# Altium schematic symbol library KIA2431AS.SchLib: 1 symbol
Pins are listed as number, name and electrical type; pins without a type are passive.

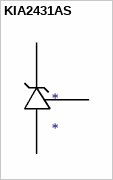
[diagram p0: symbol KIA2431AS]

## KIA2431AS
designator *
footprint KIA2431AS
pins: 1 67, 2 66, 3